# EAGLE library part HCMS-296X (library PiB_displays)
HCMS-296x 4 LED Array Display
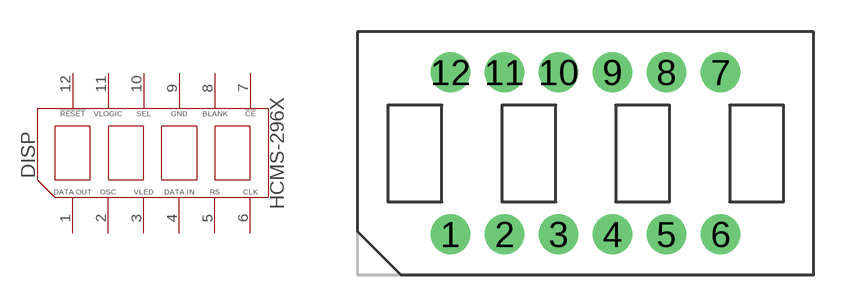
[diagram p0: symbol with the pads of HCMS-296X; footprint HCMS-296X]

Designator prefix DISP

## HCMS-296X_8_HERED (CREATOR: Kenmei; DATASHEET: https://docs.broadcom.com/docs/AV02-0699EN; DIST: Digikey; DISTLINK: https://www.digikey.com/products/en?mpart=HCMS-2962&v=516; DISTPN: 516-1180-5-ND; MFR: Broadcom Limited; MPN: HCMS-2962; TESTED: NO)  [HCMS-296X]
1  1
2  2
3  3
4  4
5  5
6  6
7  7
8  8
9  9
10  10
11  11
12  12

## Footprint HCMS-296X (pad centres in mm)
drill 1.016 pad 1.88: 1 -6.35,-3.81; 2 -3.81,-3.81; 3 -1.27,-3.81; 4 1.27,-3.81; 5 3.81,-3.81; 6 6.35,-3.81; 7 6.35,3.81; 8 3.81,3.81; 9 1.27,3.81; 10 -1.27,3.81; 11 -3.81,3.81; 12 -6.35,3.81